# EAGLE library part MCP4801/4811/4821 (library microchip)
8/10/12-Bit Voltage Output DAC Internal VREF and SPI Interface
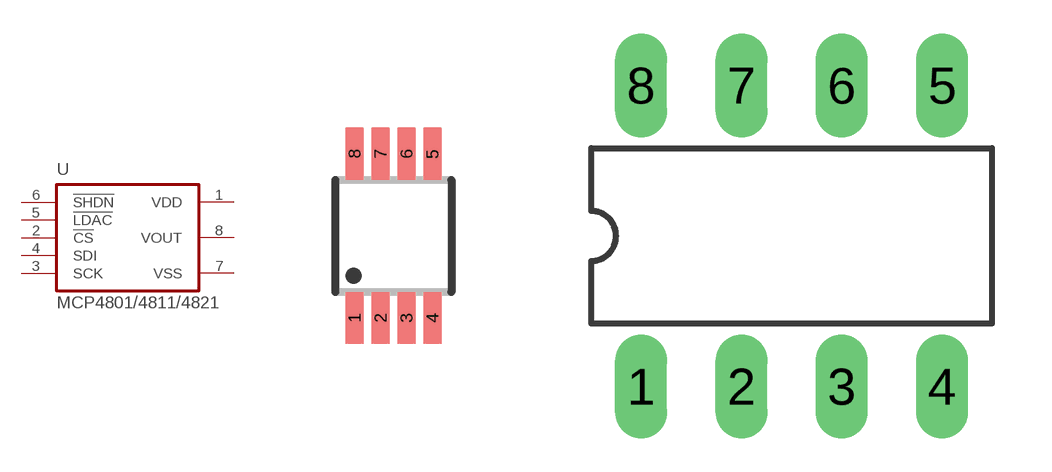
[diagram p137: symbol with the pads of MSOP8; footprints MSOP8, DIL8]

Designator prefix U

## MCP4801/4811/4821MS  [MSOP8]
1  VDD  pwr
2  !CS!  in
3  SCK  in
4  SDI  in
5  !LDAC!  in
6  !SHDN!  in
7  VSS  pwr
8  VOUT  out

## MCP4801/4811/4821P  [DIL8]
Pads as for MSOP8

## MCP4801/4811/4821SN  [SO-08]
Pads as for MSOP8

## Footprint MSOP8 (pad centres in mm)
Micro Small Outline Package
smd 0.45 x 1.3: 1 -0.975,-2.05; 2 -0.325,-2.05; 3 0.325,-2.05; 4 0.975,-2.05; 5 0.975,2.05; 6 0.325,2.05; 7 -0.325,2.05; 8 -0.975,2.05

## Footprint DIL8 (pad centres in mm)
Dual In Line package type P
drill 0.813 long: 1 -3.81,-3.81; 2 -1.27,-3.81; 3 1.27,-3.81; 4 3.81,-3.81; 5 3.81,3.81; 6 1.27,3.81; 7 -1.27,3.81; 8 -3.81,3.81

## Footprint SO-08 (pad centres in mm)
Small Outline Narrow Plastic Gull Wing 150-mil body, package type SN
smd 0.6 x 2.2: 1 -1.905,-2.6; 2 -0.635,-2.6; 3 0.635,-2.6; 4 1.905,-2.6; 5 1.905,2.6; 6 0.635,2.6; 7 -0.635,2.6; 8 -1.905,2.6